# Altium footprint library capae_1000x1000x1200.PcbLib: 1 footprints
Each footprint in its own frame and in the unit in brackets; x right, y up, seen from the top. Pads: shape width x height; smd on the part's side, far side on the other; paste and mask are expansions set on the pad; w line width, h text height; cw(c..) or ccw(c..) is an arc to the next point about the centre after c.
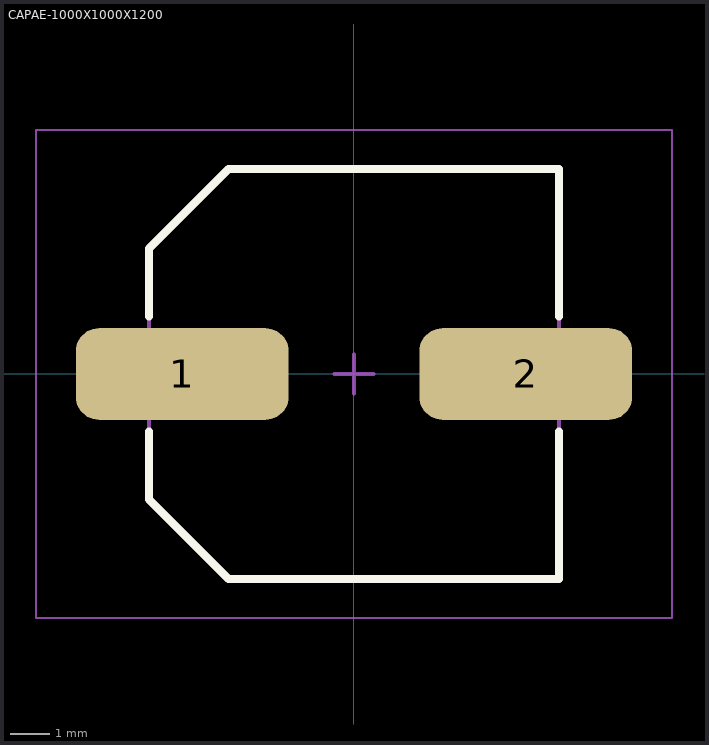
[diagram p0: the footprint, top view; thin cyan lines are the x and y axes]

## CAPAE-1000X1000X1200 [mm] "Aluminum Electrolytic Capacitor, Body 10,50x10,50x12,50mm, IPC Low Density"
height 12.5
pads (2):
  rrect50% 5.45x2.35 smd: 1(-4.4,0) 2(4.4,0)
Top Overlay:
  lines w0.2: -5.25,-1.475 -5.25,-3.213 -3.212,-5.25 5.25,-5.25 5.25,-1.475 ; -5.25,1.475 -5.25,3.212 -3.212,5.25 5.25,5.25 5.25,1.475
Top Comment:
  text ".Comment" at 0.6,7 h1.2
Top Designator:
  text ".Designator" at -0.9,7 h1.2
Top Component Outline:
  lines w0.1: -5.25,-3.213 -5.25,3.212 -3.212,5.25 5.25,5.25 5.25,-5.25 -3.212,-5.25 -5.25,-3.213
Top Courtyard (Mech15):
  lines w0.05: -8.15,-6.25 8.15,-6.25 8.15,6.25 -8.15,6.25 -8.15,-6.25
  lines w0.1: -0.5,0 0.5,0 ; 0,-0.5 0,0.5
3D body "146 CTI 1010.STEP": height 12.5, standoff 0, extent -6.05,-5.25 6.05,5.25